# Altium schematic symbol library SCH - CONNECTORS - TE 3-794677-8.Schlib: 1 symbol
Pins are listed as number, name and electrical type; pins without a type are passive.

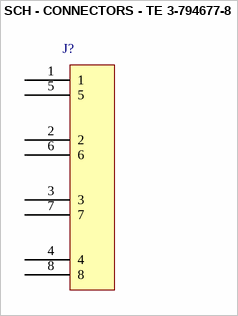
[diagram p0: symbol SCH - CONNECTORS - TE 3-794677-8]

## SCH - CONNECTORS - TE 3-794677-8
designator J?
footprint TE 3-794677-8 (Dual row Right angle header With plastic peg 08p)
pins: 1, 2, 3, 4, 5, 6, 7, 8